# Altium integrated library Micron Memory Parallel NOR Flash.IntLib: 720 symbols (part 83 of 216)
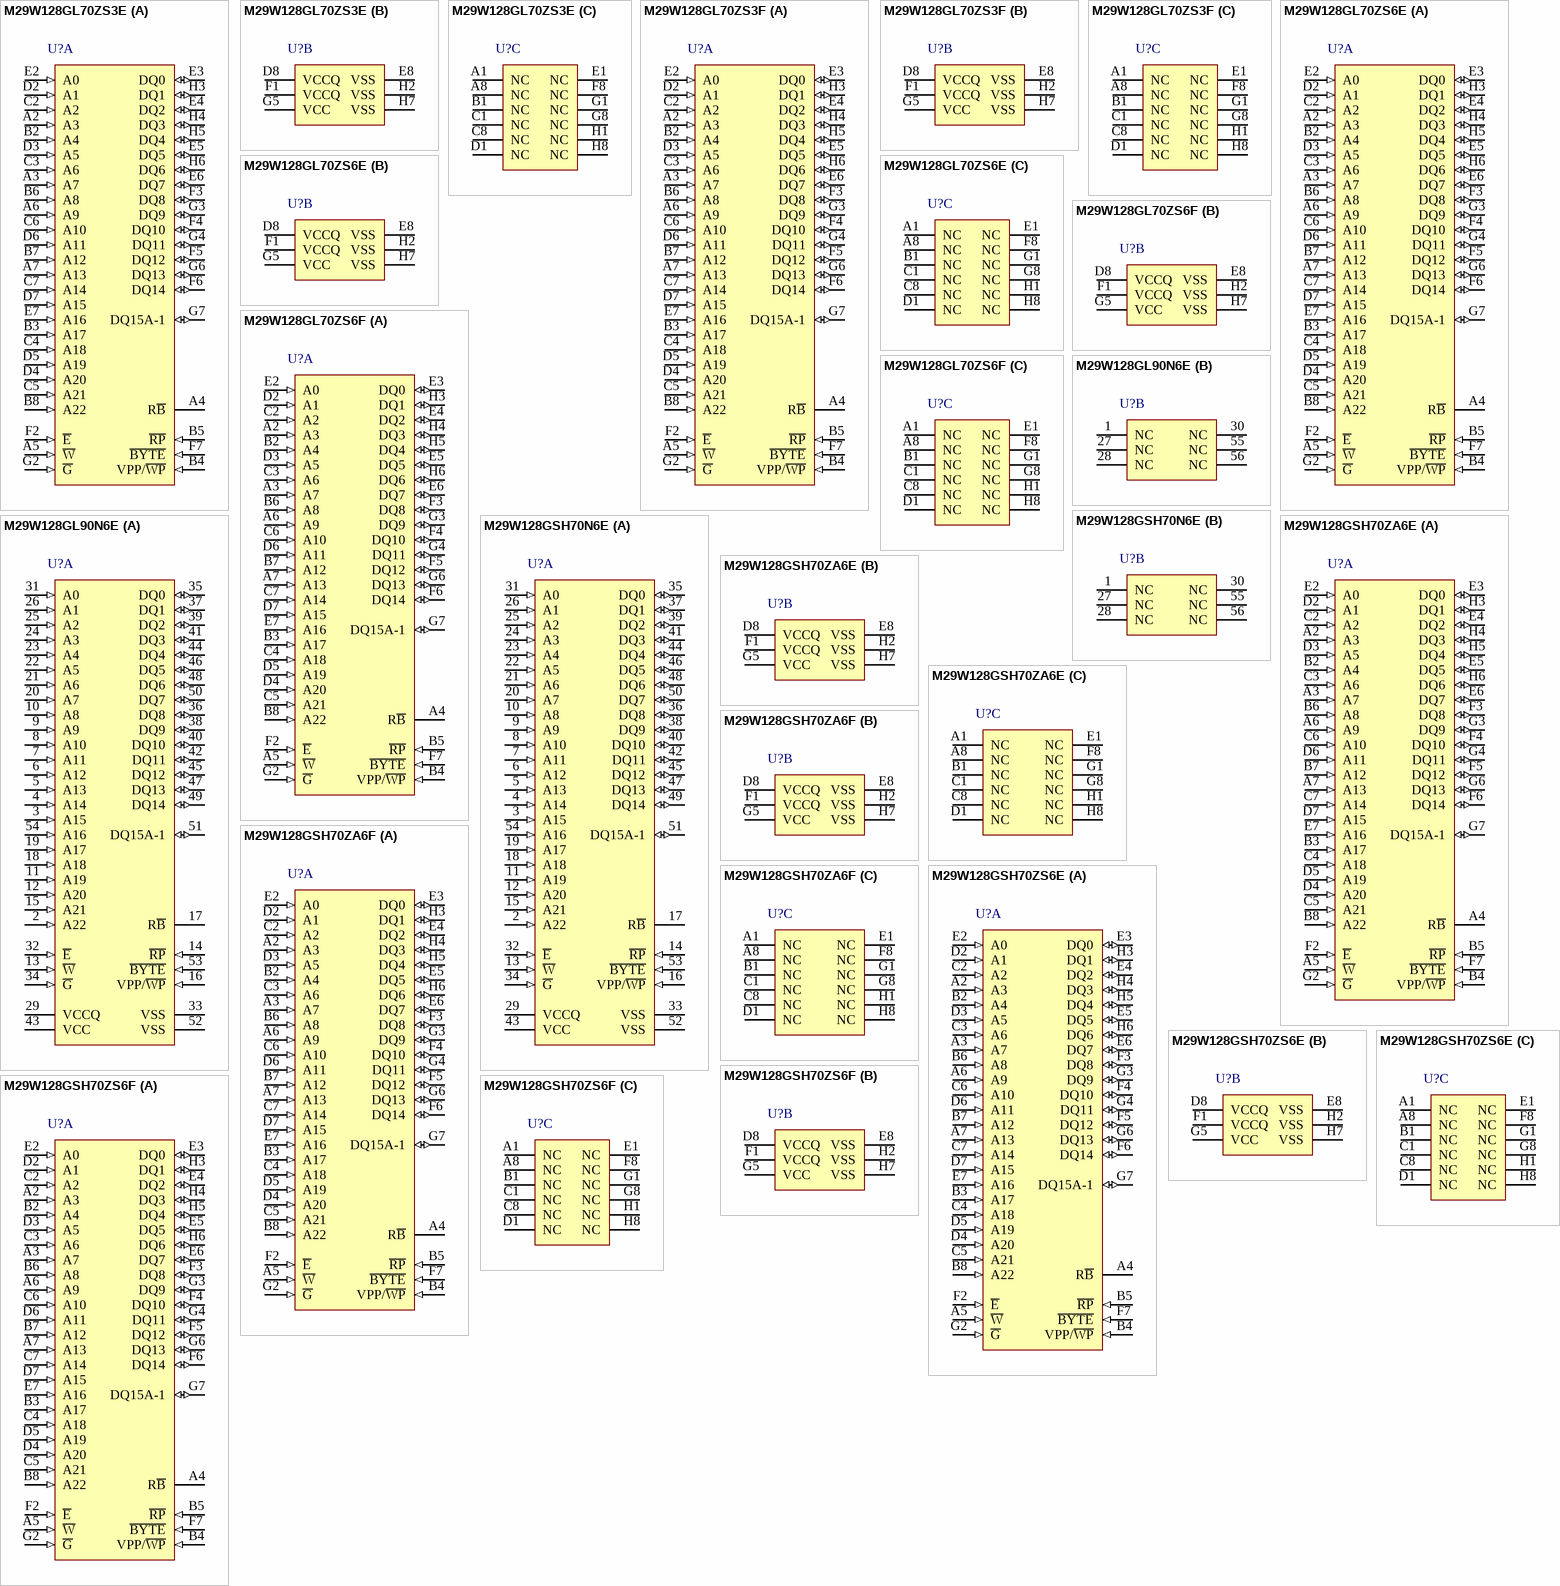
[diagram p127: symbols M29W128GL70ZS3E to M29W128GSH70ZS6F]

## M29W128GL70ZS3F
designator U?
128 Mb (x8/x16) Automotive Parallel NOR Flash Memory, 70 ns, 2.7 to 3.6 V, 64-ball FBGA (ZS), Tape & Reel; Part Family: M29W; Manufacturer: Micron; PartNumber: M29W128GL70ZS3F; Density: 128Mb; Op Temp: -40C to +125C; Speed: 70ns; Voltage: 2.7V-3.6V; DatasheetVersion: Rev. 11; PackageVersion: Rev. 11; PackageReference: MICT-ZS-64; PackageDescription: 64-Ball FBGA, 11 X 13 mm, Pitch 1 mm; RoHS: Yes; Width: x8/x16; Mounting Technology: Surface Mount; ComponentLink1Description: Manufacturer URL; ComponentLink1URL: http://www.micron.com/; ComponentLink2Description: Datasheet; ComponentLink2URL: http://www.micron.com/~/media/Documents/Products/Data%20Sheet/NOR%20Flash/Parallel/M29W/M29W128G.pdf; ComponentLink3Description: Package Specification; ComponentLink3URL: http://www.micron.com/~/media/Documents/Products/Data%20Sheet/NOR%20Flash/Parallel/P33/208034_P33_65nm_SBC_64M_128M_Discrete_DS.pdf
footprint MICT-ZS-64 (BGA, 64-Balls, Body 13x11mm, Pitch 1mm)
part A pins: A2 A3 (in) "Address input: The Address Input select the cells in the memory array to access during bus read operations. During bus write operations they control the commands sent to the command interface of the program/erase controller.", A3 A7 (in) "Address input: The Address Input select the cells in the memory array to access during bus read operations. During bus write operations they control the commands sent to the command interface of the program/erase controller.", A4 R~{B} (hiz) "Ready/busy output: The ready/busy pin is an open-drain output that can be used to identify when the device is performing a program or erase operation. During program or erase operations ready/busy is Low, VOL. Ready/busy is (See Datasheet)", A5 ~{W} (in) "Write enable: The write enable pin, W\, controls the bus write operation of the memory’s command interface.", A6 A9 (in) "Address input: The Address Input select the cells in the memory array to access during bus read operations. During bus write operations they control the commands sent to the command interface of the program/erase controller.", A7 A13 (in) "Address input: The Address Input select the cells in the memory array to access during bus read operations. During bus write operations they control the commands sent to the command interface of the program/erase controller.", B2 A4 (in) "Address input: The Address Input select the cells in the memory array to access during bus read operations. During bus write operations they control the commands sent to the command interface of the program/erase controller.", B3 A17 (in) "Address input: The Address Input select the cells in the memory array to access during bus read operations. During bus write operations they control the commands sent to the command interface of the program/erase controller.", B4 VPP/~{WP} (in) "VPP/write protect: The VPP/write protect pin provides two functions. The VPPH function allows the memory to use an external high voltage power supply to reduce the time required for program operations. This is achieved by (See Datasheet)", B5 ~{RP} (in) "Reset: The reset pin can be used to apply a hardware reset to the memory. A hardware reset is achieved by holding reset Low, VIL, for at least tPLPX. After reset goes High, VIH, the memory will be ready for bus read and bus (See Datasheet)", B6 A8 (in) "Address input: The Address Input select the cells in the memory array to access during bus read operations. During bus write operations they control the commands sent to the command interface of the program/erase controller.", B7 A12 (in) "Address input: The Address Input select the cells in the memory array to access during bus read operations. During bus write operations they control the commands sent to the command interface of the program/erase controller.", B8 A22 (in) "Address input: The Address Input select the cells in the memory array to access during bus read operations. During bus write operations they control the commands sent to the command interface of the program/erase controller.", C2 A2 (in) "Address input: The Address Input select the cells in the memory array to access during bus read operations. During bus write operations they control the commands sent to the command interface of the program/erase controller.", C3 A6 (in) "Address input: The Address Input select the cells in the memory array to access during bus read operations. During bus write operations they control the commands sent to the command interface of the program/erase controller.", C4 A18 (in) "Address input: The Address Input select the cells in the memory array to access during bus read operations. During bus write operations they control the commands sent to the command interface of the program/erase controller.", C5 A21 (in) "Address input: The Address Input select the cells in the memory array to access during bus read operations. During bus write operations they control the commands sent to the command interface of the program/erase controller.", C6 A10 (in) "Address input: The Address Input select the cells in the memory array to access during bus read operations. During bus write operations they control the commands sent to the command interface of the program/erase controller.", C7 A14 (in) "Address input: The Address Input select the cells in the memory array to access during bus read operations. During bus write operations they control the commands sent to the command interface of the program/erase controller.", D2 A1 (in) "Address Input: The Address Input select the cells in the memory array to access during bus read operations. During bus write operations they control the commands sent to the command interface of the program/erase controller.", D3 A5 (in) "Address input: The Address Input select the cells in the memory array to access during bus read operations. During bus write operations they control the commands sent to the command interface of the program/erase controller.", D4 A20 (in) "Address input: The Address Input select the cells in the memory array to access during bus read operations. During bus write operations they control the commands sent to the command interface of the program/erase controller.", D5 A19 (in) "Address input: The Address Input select the cells in the memory array to access during bus read operations. During bus write operations they control the commands sent to the command interface of the program/erase controller.", D6 A11 (in) "Address input: The Address Input select the cells in the memory array to access during bus read operations. During bus write operations they control the commands sent to the command interface of the program/erase controller.", D7 A15 (in) "Address input: The Address Input select the cells in the memory array to access during bus read operations. During bus write operations they control the commands sent to the command interface of the program/erase controller.", E2 A0 (in) "Address input: The Address Input select the cells in the memory array to access during bus read operations. During bus write operations they control the commands sent to the command interface of the program/erase controller.", E3 DQ0 (io) "Data input/output: The data I/O Output the data stored at the selected address during a bus read operation. During bus write operations they represent the commands sent to the command interface of the internal state machine.", E4 DQ2 (io) "Data input/output: The data I/O Output the data stored at the selected address during a bus read operation. During bus write operations they represent the commands sent to the command interface of the internal state machine.", E5 DQ5 (io) "Data input/output: The data I/O output the data stored at the selected address during a bus read operation. During bus write operations they represent the commands sent to the command interface of the internal state machine.", E6 DQ7 (io) "Data input/output: The data I/O output the data stored at the selected address during a bus read operation. During bus write operations they represent the commands sent to the command interface of the internal state machine.", E7 A16 (in) "Address input: The Address Input select the cells in the memory array to access during bus read operations. During bus write operations they control the commands sent to the command interface of the program/erase controller.", F2 ~{E} (in) "Chip enable: The chip enable pin, E\, activates the memory, allowing bus read and bus write operations to be performed. When chip enable is High, VIH, all other pins are ignored.", F3 DQ8 (io) "Data input/output: The data I/O output the data stored at the selected address during a bus read operation when B\Y\T\E\ is High, VIH. When B\Y\T\E\ is Low, VIL, these pins are not used and are high impedance. During bus (See Datasheet)", F4 DQ10 (io) "Data input/output: The data I/O output the data stored at the selected address during a bus read operation when B\Y\T\E\ is High, VIH. When B\Y\T\E\ is Low, VIL, these pins are not used and are high impedance. During bus (See Datasheet)", F5 DQ12 (io) "Data input/output: The data I/O output the data stored at the selected address during a bus read operation when B\Y\T\E\ is High, VIH. When B\Y\T\E\ is Low, VIL, these pins are not used and are high impedance. During bus (See Datasheet)", F6 DQ14 (io) "Data input/output: The data I/O output the data stored at the selected address during a bus read operation when B\Y\T\E\ is High, VIH. When B\Y\T\E\ is Low, VIL, these pins are not used and are high impedance. During bus (See Datasheet)", F7 ~{BYTE} (in) "B\y\t\e\/word organization select: It is used to switch between the x8 and x16 bus modes of the memory. When byte/word organization select is Low, VIL, the memory is in x8 mode, when it is High, VIH, the memory is in x16 (See Datasheet)", G2 ~{G} (in) "Output enable: The output enable pin, G\, controls the bus read operation of the memory.", G3 DQ9 (io) "Data input/output: The data I/O output the data stored at the selected address during a bus read operation when B\Y\T\E\ is High, VIH. When B\Y\T\E\ is Low, VIL, these pins are not used and are high impedance. During bus (See Datasheet)", G4 DQ11 (io) "Data input/output: The data I/O output the data stored at the selected address during a bus read operation when B\Y\T\E\ is High, VIH. When B\Y\T\E\ is Low, VIL, these pins are not used and are high impedance. During bus (See Datasheet)", G6 DQ13 (io) "Data input/output: The data I/O output the data stored at the selected address during a bus read operation when B\Y\T\E\ is High, VIH. When B\Y\T\E\ is Low, VIL, these pins are not used and are high impedance. During bus (See Datasheet)", G7 DQ15A-1 (io) "Data input/output or address input: When the device is in x 16 bus mode, this pin behaves as a data input/output pin (as DQ8- DQ14). When the device operates in x 8 bus mode, this pin behaves as the least significant bit of (See Datasheet)", H3 DQ1 (io) "Data input/output: The data I/O Output the data stored at the selected address during a bus read operation. During bus write operations they represent the commands sent to the command interface of the internal state machine.", H4 DQ3 (io) "Data input/output: The data I/O output the data stored at the selected address during a bus read operation. During bus write operations they represent the commands sent to the command interface of the internal state machine.", H5 DQ4 (io) "Data input/OUTPUT: The data I/O OUTPUT the data stored at the selected address during a bus read operation. During bus write operations they represent the commands sent to the command interface of the internal state machine.", H6 DQ6 (io) "Data input/output: The data I/O output the data stored at the selected address during a bus read operation. During bus write operations they represent the commands sent to the command interface of the internal state machine."
part B pins: D8 VCCQ (power) "VCCQ input/output supply voltage: VCCQ provides the power supply to the I/O pins and enables all outputs to be powered independently from VCC.", E8 VSS (power) "Vss ground: VSS is the reference for all voltage measurements. The device features two VSS pins both of which must be connected to the system ground.", F1 VCCQ (power) "VCCQ input/output supply voltage: VCCQ provides the power supply to the I/O pins and enables all outputs to be powered independently from VCC.", G5 VCC (power) "VCC supply voltage: VCC provides the power supply for all operations (read, program and erase). The command interface is disabled when the VCC supply voltage is less than the lockout voltage, VLKO. This prevents bus write (See Datasheet)", H2 VSS (power) "Vss ground: VSS is the reference for all voltage measurements. The device features two VSS pins both of which must be connected to the system ground.", H7 VSS (power) "Vss ground: VSS is the reference for all voltage measurements. The device features two VSS pins both of which must be connected to the system ground."
part C pins: A1 NC "Not connected.", A8 NC "Not connected.", B1 NC "Not connected.", C1 NC "Not connected.", C8 NC "Not connected.", D1 NC "Not connected.", E1 NC "Not connected.", F8 NC "Not connected.", G1 NC "Not connected.", G8 NC "Not connected.", H1 NC "Not connected.", H8 NC "Not connected."

## M29W128GL70ZS6E
designator U?
128 Mb (x8/x16) Parallel NOR Flash Memory, 70 ns, 2.7 to 3.6 V, 64-ball FBGA (ZS), Tray; Part Family: M29W; Manufacturer: Micron; PartNumber: M29W128GL70ZS6E; Density: 128Mb; Op Temp: -40C to +85C; Speed: 70ns; Voltage: 2.7V-3.6V; DatasheetVersion: Rev. 11; PackageVersion: Rev. 11; PackageReference: MICT-ZS-64; PackageDescription: 64-Ball FBGA, 11 X 13 mm, Pitch 1 mm; RoHS: Yes; Width: x8/x16; Mounting Technology: Surface Mount; ComponentLink1Description: Manufacturer URL; ComponentLink1URL: http://www.micron.com/; ComponentLink2Description: Datasheet; ComponentLink2URL: http://www.micron.com/~/media/Documents/Products/Data%20Sheet/NOR%20Flash/Parallel/M29W/M29W128G.pdf; ComponentLink3Description: Package Specification; ComponentLink3URL: http://www.micron.com/~/media/Documents/Products/Data%20Sheet/NOR%20Flash/Parallel/P33/208034_P33_65nm_SBC_64M_128M_Discrete_DS.pdf
footprint MICT-ZS-64 (BGA, 64-Balls, Body 13x11mm, Pitch 1mm)
part A pins: A2 A3 (in) "Address input: The Address Input select the cells in the memory array to access during bus read operations. During bus write operations they control the commands sent to the command interface of the program/erase controller.", A3 A7 (in) "Address input: The Address Input select the cells in the memory array to access during bus read operations. During bus write operations they control the commands sent to the command interface of the program/erase controller.", A4 R~{B} (hiz) "Ready/busy output: The ready/busy pin is an open-drain output that can be used to identify when the device is performing a program or erase operation. During program or erase operations ready/busy is Low, VOL. Ready/busy is (See Datasheet)", A5 ~{W} (in) "Write enable: The write enable pin, W\, controls the bus write operation of the memory’s command interface.", A6 A9 (in) "Address input: The Address Input select the cells in the memory array to access during bus read operations. During bus write operations they control the commands sent to the command interface of the program/erase controller.", A7 A13 (in) "Address input: The Address Input select the cells in the memory array to access during bus read operations. During bus write operations they control the commands sent to the command interface of the program/erase controller.", B2 A4 (in) "Address input: The Address Input select the cells in the memory array to access during bus read operations. During bus write operations they control the commands sent to the command interface of the program/erase controller.", B3 A17 (in) "Address input: The Address Input select the cells in the memory array to access during bus read operations. During bus write operations they control the commands sent to the command interface of the program/erase controller.", B4 VPP/~{WP} (in) "VPP/write protect: The VPP/write protect pin provides two functions. The VPPH function allows the memory to use an external high voltage power supply to reduce the time required for program operations. This is achieved by (See Datasheet)", B5 ~{RP} (in) "Reset: The reset pin can be used to apply a hardware reset to the memory. A hardware reset is achieved by holding reset Low, VIL, for at least tPLPX. After reset goes High, VIH, the memory will be ready for bus read and bus (See Datasheet)", B6 A8 (in) "Address input: The Address Input select the cells in the memory array to access during bus read operations. During bus write operations they control the commands sent to the command interface of the program/erase controller.", B7 A12 (in) "Address input: The Address Input select the cells in the memory array to access during bus read operations. During bus write operations they control the commands sent to the command interface of the program/erase controller.", B8 A22 (in) "Address input: The Address Input select the cells in the memory array to access during bus read operations. During bus write operations they control the commands sent to the command interface of the program/erase controller.", C2 A2 (in) "Address input: The Address Input select the cells in the memory array to access during bus read operations. During bus write operations they control the commands sent to the command interface of the program/erase controller.", C3 A6 (in) "Address input: The Address Input select the cells in the memory array to access during bus read operations. During bus write operations they control the commands sent to the command interface of the program/erase controller.", C4 A18 (in) "Address input: The Address Input select the cells in the memory array to access during bus read operations. During bus write operations they control the commands sent to the command interface of the program/erase controller.", C5 A21 (in) "Address input: The Address Input select the cells in the memory array to access during bus read operations. During bus write operations they control the commands sent to the command interface of the program/erase controller.", C6 A10 (in) "Address input: The Address Input select the cells in the memory array to access during bus read operations. During bus write operations they control the commands sent to the command interface of the program/erase controller.", C7 A14 (in) "Address input: The Address Input select the cells in the memory array to access during bus read operations. During bus write operations they control the commands sent to the command interface of the program/erase controller.", D2 A1 (in) "Address Input: The Address Input select the cells in the memory array to access during bus read operations. During bus write operations they control the commands sent to the command interface of the program/erase controller.", D3 A5 (in) "Address input: The Address Input select the cells in the memory array to access during bus read operations. During bus write operations they control the commands sent to the command interface of the program/erase controller.", D4 A20 (in) "Address input: The Address Input select the cells in the memory array to access during bus read operations. During bus write operations they control the commands sent to the command interface of the program/erase controller.", D5 A19 (in) "Address input: The Address Input select the cells in the memory array to access during bus read operations. During bus write operations they control the commands sent to the command interface of the program/erase controller.", D6 A11 (in) "Address input: The Address Input select the cells in the memory array to access during bus read operations. During bus write operations they control the commands sent to the command interface of the program/erase controller.", D7 A15 (in) "Address input: The Address Input select the cells in the memory array to access during bus read operations. During bus write operations they control the commands sent to the command interface of the program/erase controller.", E2 A0 (in) "Address input: The Address Input select the cells in the memory array to access during bus read operations. During bus write operations they control the commands sent to the command interface of the program/erase controller.", E3 DQ0 (io) "Data input/output: The data I/O Output the data stored at the selected address during a bus read operation. During bus write operations they represent the commands sent to the command interface of the internal state machine.", E4 DQ2 (io) "Data input/output: The data I/O Output the data stored at the selected address during a bus read operation. During bus write operations they represent the commands sent to the command interface of the internal state machine.", E5 DQ5 (io) "Data input/output: The data I/O output the data stored at the selected address during a bus read operation. During bus write operations they represent the commands sent to the command interface of the internal state machine.", E6 DQ7 (io) "Data input/output: The data I/O output the data stored at the selected address during a bus read operation. During bus write operations they represent the commands sent to the command interface of the internal state machine.", E7 A16 (in) "Address input: The Address Input select the cells in the memory array to access during bus read operations. During bus write operations they control the commands sent to the command interface of the program/erase controller.", F2 ~{E} (in) "Chip enable: The chip enable pin, E\, activates the memory, allowing bus read and bus write operations to be performed. When chip enable is High, VIH, all other pins are ignored.", F3 DQ8 (io) "Data input/output: The data I/O output the data stored at the selected address during a bus read operation when B\Y\T\E\ is High, VIH. When B\Y\T\E\ is Low, VIL, these pins are not used and are high impedance. During bus (See Datasheet)", F4 DQ10 (io) "Data input/output: The data I/O output the data stored at the selected address during a bus read operation when B\Y\T\E\ is High, VIH. When B\Y\T\E\ is Low, VIL, these pins are not used and are high impedance. During bus (See Datasheet)", F5 DQ12 (io) "Data input/output: The data I/O output the data stored at the selected address during a bus read operation when B\Y\T\E\ is High, VIH. When B\Y\T\E\ is Low, VIL, these pins are not used and are high impedance. During bus (See Datasheet)", F6 DQ14 (io) "Data input/output: The data I/O output the data stored at the selected address during a bus read operation when B\Y\T\E\ is High, VIH. When B\Y\T\E\ is Low, VIL, these pins are not used and are high impedance. During bus (See Datasheet)", F7 ~{BYTE} (in) "B\y\t\e\/word organization select: It is used to switch between the x8 and x16 bus modes of the memory. When byte/word organization select is Low, VIL, the memory is in x8 mode, when it is High, VIH, the memory is in x16 (See Datasheet)", G2 ~{G} (in) "Output enable: The output enable pin, G\, controls the bus read operation of the memory.", G3 DQ9 (io) "Data input/output: The data I/O output the data stored at the selected address during a bus read operation when B\Y\T\E\ is High, VIH. When B\Y\T\E\ is Low, VIL, these pins are not used and are high impedance. During bus (See Datasheet)", G4 DQ11 (io) "Data input/output: The data I/O output the data stored at the selected address during a bus read operation when B\Y\T\E\ is High, VIH. When B\Y\T\E\ is Low, VIL, these pins are not used and are high impedance. During bus (See Datasheet)", G6 DQ13 (io) "Data input/output: The data I/O output the data stored at the selected address during a bus read operation when B\Y\T\E\ is High, VIH. When B\Y\T\E\ is Low, VIL, these pins are not used and are high impedance. During bus (See Datasheet)", G7 DQ15A-1 (io) "Data input/output or address input: When the device is in x 16 bus mode, this pin behaves as a data input/output pin (as DQ8- DQ14). When the device operates in x 8 bus mode, this pin behaves as the least significant bit of (See Datasheet)", H3 DQ1 (io) "Data input/output: The data I/O Output the data stored at the selected address during a bus read operation. During bus write operations they represent the commands sent to the command interface of the internal state machine.", H4 DQ3 (io) "Data input/output: The data I/O output the data stored at the selected address during a bus read operation. During bus write operations they represent the commands sent to the command interface of the internal state machine.", H5 DQ4 (io) "Data input/OUTPUT: The data I/O OUTPUT the data stored at the selected address during a bus read operation. During bus write operations they represent the commands sent to the command interface of the internal state machine.", H6 DQ6 (io) "Data input/output: The data I/O output the data stored at the selected address during a bus read operation. During bus write operations they represent the commands sent to the command interface of the internal state machine."
part B pins: D8 VCCQ (power) "VCCQ input/output supply voltage: VCCQ provides the power supply to the I/O pins and enables all outputs to be powered independently from VCC.", E8 VSS (power) "Vss ground: VSS is the reference for all voltage measurements. The device features two VSS pins both of which must be connected to the system ground.", F1 VCCQ (power) "VCCQ input/output supply voltage: VCCQ provides the power supply to the I/O pins and enables all outputs to be powered independently from VCC.", G5 VCC (power) "VCC supply voltage: VCC provides the power supply for all operations (read, program and erase). The command interface is disabled when the VCC supply voltage is less than the lockout voltage, VLKO. This prevents bus write (See Datasheet)", H2 VSS (power) "Vss ground: VSS is the reference for all voltage measurements. The device features two VSS pins both of which must be connected to the system ground.", H7 VSS (power) "Vss ground: VSS is the reference for all voltage measurements. The device features two VSS pins both of which must be connected to the system ground."
part C pins: A1 NC "Not connected.", A8 NC "Not connected.", B1 NC "Not connected.", C1 NC "Not connected.", C8 NC "Not connected.", D1 NC "Not connected.", E1 NC "Not connected.", F8 NC "Not connected.", G1 NC "Not connected.", G8 NC "Not connected.", H1 NC "Not connected.", H8 NC "Not connected."

## M29W128GL70ZS6F
designator U?
128 Mb (x8/x16) Parallel NOR Flash Memory, 70 ns, 2.7 to 3.6 V, 64-ball FBGA (ZS), Tape & Reel; Part Family: M29W; Manufacturer: Micron; PartNumber: M29W128GL70ZS6F; Density: 128Mb; Op Temp: -40C to +85C; Speed: 70ns; Voltage: 2.7V-3.6V; DatasheetVersion: Rev. 11; PackageVersion: Rev. 11; PackageReference: MICT-ZS-64; PackageDescription: 64-Ball FBGA, 11 X 13 mm, Pitch 1 mm; RoHS: Yes; Width: x8/x16; Mounting Technology: Surface Mount; ComponentLink1Description: Manufacturer URL; ComponentLink1URL: http://www.micron.com/; ComponentLink2Description: Datasheet; ComponentLink2URL: http://www.micron.com/~/media/Documents/Products/Data%20Sheet/NOR%20Flash/Parallel/M29W/M29W128G.pdf; ComponentLink3Description: Package Specification; ComponentLink3URL: http://www.micron.com/~/media/Documents/Products/Data%20Sheet/NOR%20Flash/Parallel/P33/208034_P33_65nm_SBC_64M_128M_Discrete_DS.pdf
footprint MICT-ZS-64 (BGA, 64-Balls, Body 13x11mm, Pitch 1mm)
part A pins: A2 A3 (in) "Address input: The Address Input select the cells in the memory array to access during bus read operations. During bus write operations they control the commands sent to the command interface of the program/erase controller.", A3 A7 (in) "Address input: The Address Input select the cells in the memory array to access during bus read operations. During bus write operations they control the commands sent to the command interface of the program/erase controller.", A4 R~{B} (hiz) "Ready/busy output: The ready/busy pin is an open-drain output that can be used to identify when the device is performing a program or erase operation. During program or erase operations ready/busy is Low, VOL. Ready/busy is (See Datasheet)", A5 ~{W} (in) "Write enable: The write enable pin, W\, controls the bus write operation of the memory’s command interface.", A6 A9 (in) "Address input: The Address Input select the cells in the memory array to access during bus read operations. During bus write operations they control the commands sent to the command interface of the program/erase controller.", A7 A13 (in) "Address input: The Address Input select the cells in the memory array to access during bus read operations. During bus write operations they control the commands sent to the command interface of the program/erase controller.", B2 A4 (in) "Address input: The Address Input select the cells in the memory array to access during bus read operations. During bus write operations they control the commands sent to the command interface of the program/erase controller.", B3 A17 (in) "Address input: The Address Input select the cells in the memory array to access during bus read operations. During bus write operations they control the commands sent to the command interface of the program/erase controller.", B4 VPP/~{WP} (in) "VPP/write protect: The VPP/write protect pin provides two functions. The VPPH function allows the memory to use an external high voltage power supply to reduce the time required for program operations. This is achieved by (See Datasheet)", B5 ~{RP} (in) "Reset: The reset pin can be used to apply a hardware reset to the memory. A hardware reset is achieved by holding reset Low, VIL, for at least tPLPX. After reset goes High, VIH, the memory will be ready for bus read and bus (See Datasheet)", B6 A8 (in) "Address input: The Address Input select the cells in the memory array to access during bus read operations. During bus write operations they control the commands sent to the command interface of the program/erase controller.", B7 A12 (in) "Address input: The Address Input select the cells in the memory array to access during bus read operations. During bus write operations they control the commands sent to the command interface of the program/erase controller.", B8 A22 (in) "Address input: The Address Input select the cells in the memory array to access during bus read operations. During bus write operations they control the commands sent to the command interface of the program/erase controller.", C2 A2 (in) "Address input: The Address Input select the cells in the memory array to access during bus read operations. During bus write operations they control the commands sent to the command interface of the program/erase controller.", C3 A6 (in) "Address input: The Address Input select the cells in the memory array to access during bus read operations. During bus write operations they control the commands sent to the command interface of the program/erase controller.", C4 A18 (in) "Address input: The Address Input select the cells in the memory array to access during bus read operations. During bus write operations they control the commands sent to the command interface of the program/erase controller.", C5 A21 (in) "Address input: The Address Input select the cells in the memory array to access during bus read operations. During bus write operations they control the commands sent to the command interface of the program/erase controller.", C6 A10 (in) "Address input: The Address Input select the cells in the memory array to access during bus read operations. During bus write operations they control the commands sent to the command interface of the program/erase controller.", C7 A14 (in) "Address input: The Address Input select the cells in the memory array to access during bus read operations. During bus write operations they control the commands sent to the command interface of the program/erase controller.", D2 A1 (in) "Address Input: The Address Input select the cells in the memory array to access during bus read operations. During bus write operations they control the commands sent to the command interface of the program/erase controller.", D3 A5 (in) "Address input: The Address Input select the cells in the memory array to access during bus read operations. During bus write operations they control the commands sent to the command interface of the program/erase controller.", D4 A20 (in) "Address input: The Address Input select the cells in the memory array to access during bus read operations. During bus write operations they control the commands sent to the command interface of the program/erase controller.", D5 A19 (in) "Address input: The Address Input select the cells in the memory array to access during bus read operations. During bus write operations they control the commands sent to the command interface of the program/erase controller.", D6 A11 (in) "Address input: The Address Input select the cells in the memory array to access during bus read operations. During bus write operations they control the commands sent to the command interface of the program/erase controller.", D7 A15 (in) "Address input: The Address Input select the cells in the memory array to access during bus read operations. During bus write operations they control the commands sent to the command interface of the program/erase controller.", E2 A0 (in) "Address input: The Address Input select the cells in the memory array to access during bus read operations. During bus write operations they control the commands sent to the command interface of the program/erase controller.", E3 DQ0 (io) "Data input/output: The data I/O Output the data stored at the selected address during a bus read operation. During bus write operations they represent the commands sent to the command interface of the internal state machine.", E4 DQ2 (io) "Data input/output: The data I/O Output the data stored at the selected address during a bus read operation. During bus write operations they represent the commands sent to the command interface of the internal state machine.", E5 DQ5 (io) "Data input/output: The data I/O output the data stored at the selected address during a bus read operation. During bus write operations they represent the commands sent to the command interface of the internal state machine.", E6 DQ7 (io) "Data input/output: The data I/O output the data stored at the selected address during a bus read operation. During bus write operations they represent the commands sent to the command interface of the internal state machine.", E7 A16 (in) "Address input: The Address Input select the cells in the memory array to access during bus read operations. During bus write operations they control the commands sent to the command interface of the program/erase controller.", F2 ~{E} (in) "Chip enable: The chip enable pin, E\, activates the memory, allowing bus read and bus write operations to be performed. When chip enable is High, VIH, all other pins are ignored.", F3 DQ8 (io) "Data input/output: The data I/O output the data stored at the selected address during a bus read operation when B\Y\T\E\ is High, VIH. When B\Y\T\E\ is Low, VIL, these pins are not used and are high impedance. During bus (See Datasheet)", F4 DQ10 (io) "Data input/output: The data I/O output the data stored at the selected address during a bus read operation when B\Y\T\E\ is High, VIH. When B\Y\T\E\ is Low, VIL, these pins are not used and are high impedance. During bus (See Datasheet)", F5 DQ12 (io) "Data input/output: The data I/O output the data stored at the selected address during a bus read operation when B\Y\T\E\ is High, VIH. When B\Y\T\E\ is Low, VIL, these pins are not used and are high impedance. During bus (See Datasheet)", F6 DQ14 (io) "Data input/output: The data I/O output the data stored at the selected address during a bus read operation when B\Y\T\E\ is High, VIH. When B\Y\T\E\ is Low, VIL, these pins are not used and are high impedance. During bus (See Datasheet)", F7 ~{BYTE} (in) "B\y\t\e\/word organization select: It is used to switch between the x8 and x16 bus modes of the memory. When byte/word organization select is Low, VIL, the memory is in x8 mode, when it is High, VIH, the memory is in x16 (See Datasheet)", G2 ~{G} (in) "Output enable: The output enable pin, G\, controls the bus read operation of the memory.", G3 DQ9 (io) "Data input/output: The data I/O output the data stored at the selected address during a bus read operation when B\Y\T\E\ is High, VIH. When B\Y\T\E\ is Low, VIL, these pins are not used and are high impedance. During bus (See Datasheet)", G4 DQ11 (io) "Data input/output: The data I/O output the data stored at the selected address during a bus read operation when B\Y\T\E\ is High, VIH. When B\Y\T\E\ is Low, VIL, these pins are not used and are high impedance. During bus (See Datasheet)", G6 DQ13 (io) "Data input/output: The data I/O output the data stored at the selected address during a bus read operation when B\Y\T\E\ is High, VIH. When B\Y\T\E\ is Low, VIL, these pins are not used and are high impedance. During bus (See Datasheet)", G7 DQ15A-1 (io) "Data input/output or address input: When the device is in x 16 bus mode, this pin behaves as a data input/output pin (as DQ8- DQ14). When the device operates in x 8 bus mode, this pin behaves as the least significant bit of (See Datasheet)", H3 DQ1 (io) "Data input/output: The data I/O Output the data stored at the selected address during a bus read operation. During bus write operations they represent the commands sent to the command interface of the internal state machine.", H4 DQ3 (io) "Data input/output: The data I/O output the data stored at the selected address during a bus read operation. During bus write operations they represent the commands sent to the command interface of the internal state machine.", H5 DQ4 (io) "Data input/OUTPUT: The data I/O OUTPUT the data stored at the selected address during a bus read operation. During bus write operations they represent the commands sent to the command interface of the internal state machine.", H6 DQ6 (io) "Data input/output: The data I/O output the data stored at the selected address during a bus read operation. During bus write operations they represent the commands sent to the command interface of the internal state machine."
part B pins: D8 VCCQ (power) "VCCQ input/output supply voltage: VCCQ provides the power supply to the I/O pins and enables all outputs to be powered independently from VCC.", E8 VSS (power) "Vss ground: VSS is the reference for all voltage measurements. The device features two VSS pins both of which must be connected to the system ground.", F1 VCCQ (power) "VCCQ input/output supply voltage: VCCQ provides the power supply to the I/O pins and enables all outputs to be powered independently from VCC.", G5 VCC (power) "VCC supply voltage: VCC provides the power supply for all operations (read, program and erase). The command interface is disabled when the VCC supply voltage is less than the lockout voltage, VLKO. This prevents bus write (See Datasheet)", H2 VSS (power) "Vss ground: VSS is the reference for all voltage measurements. The device features two VSS pins both of which must be connected to the system ground.", H7 VSS (power) "Vss ground: VSS is the reference for all voltage measurements. The device features two VSS pins both of which must be connected to the system ground."
part C pins: A1 NC "Not connected.", A8 NC "Not connected.", B1 NC "Not connected.", C1 NC "Not connected.", C8 NC "Not connected.", D1 NC "Not connected.", E1 NC "Not connected.", F8 NC "Not connected.", G1 NC "Not connected.", G8 NC "Not connected.", H1 NC "Not connected.", H8 NC "Not connected."